# Altium footprint library Passives.PcbLib: 81 footprints (part 3 of 6)
Each footprint in its own frame and in the unit in brackets; x right, y up, seen from the top. Pads: shape width x height; smd on the part's side, far side on the other; paste and mask are expansions set on the pad; w line width, h text height; cw(c..) or ccw(c..) is an arc to the next point about the centre after c.
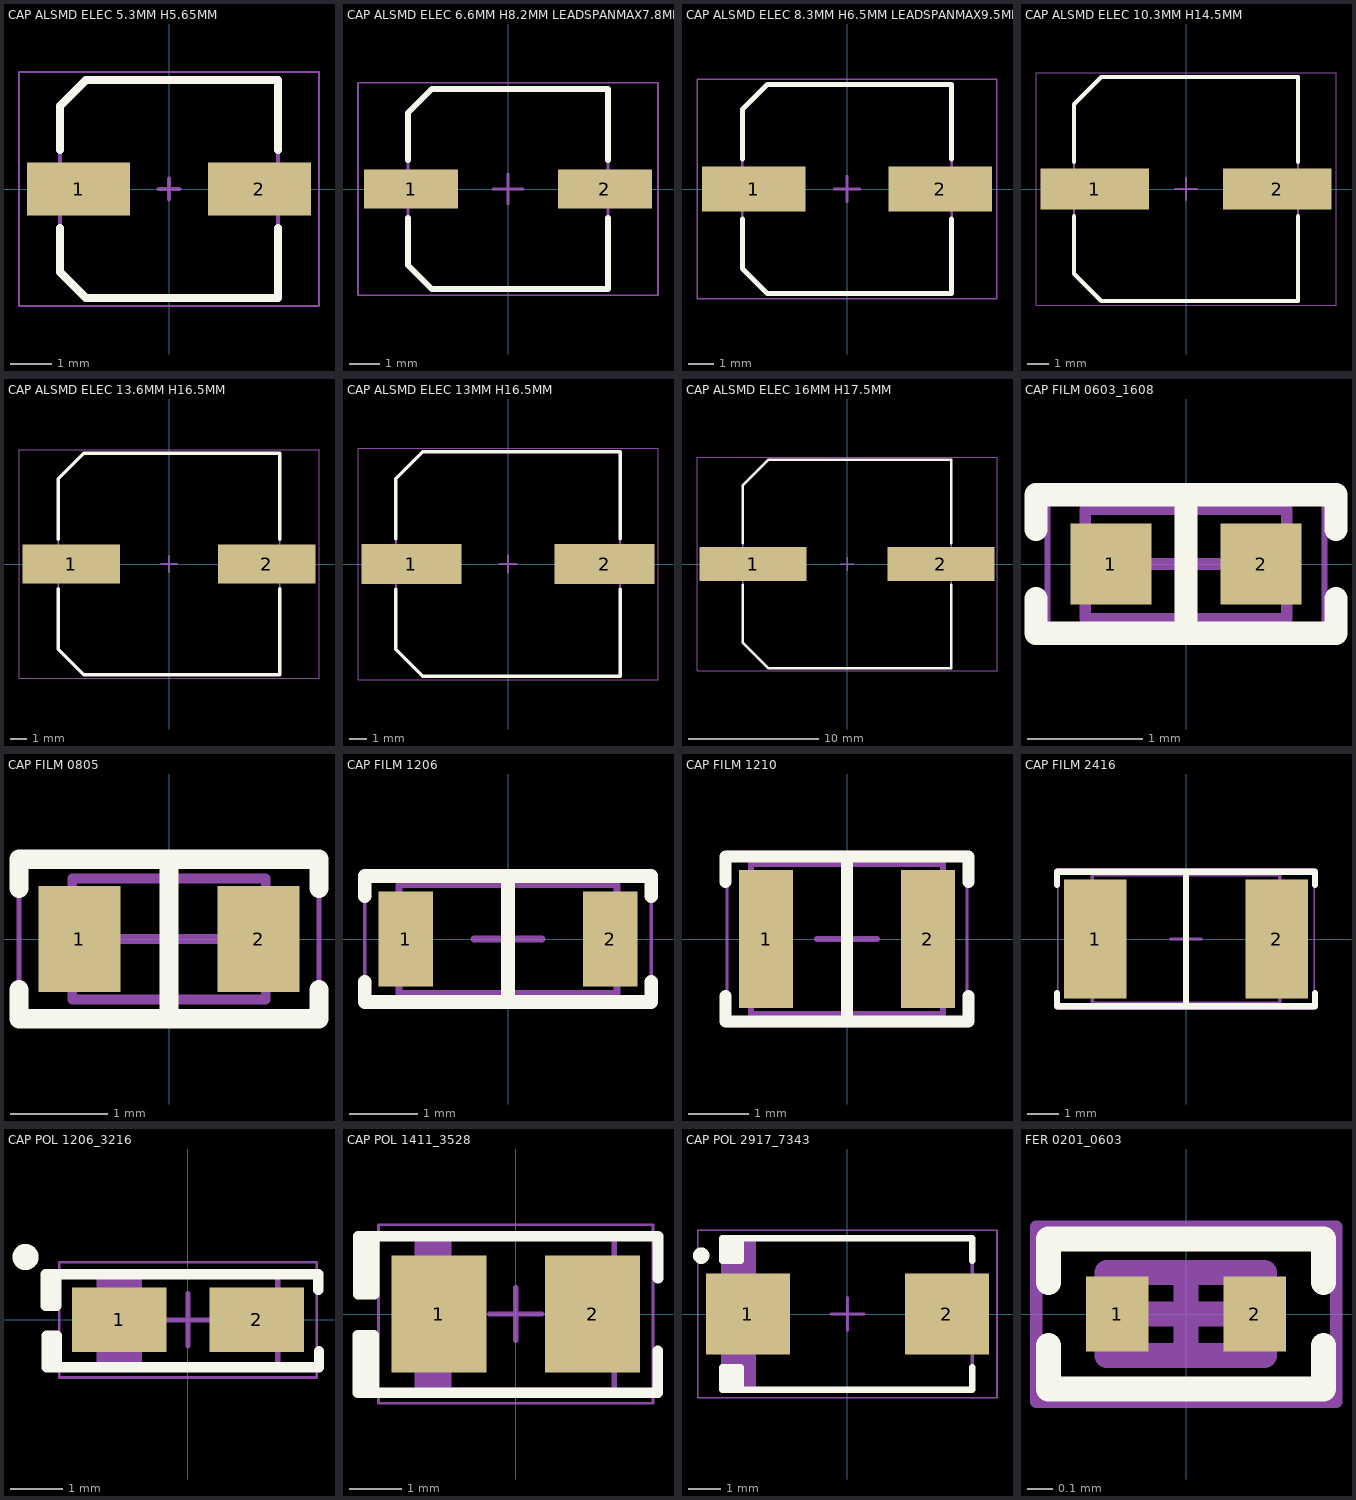
[diagram p2: the footprints below, top view; thin cyan lines are the x and y axes]

## CAP ALSMD ELEC 5.3MM H5.65MM [mm] "Aluminum SMD Electrolytic Capacitor, 5.30mm Land Size, 5.00mm Diameter, 5.65mm Height, 5.50mm Maximum Leads Span"
height 0.65
pads (2):
  rect 2.5x1.3 smd: 1(-2.2,0) 2(2.2,0)
Top Overlay:
  lines w0.2: -2.65,-0.95 -2.65,-2.025 -2.025,-2.65 2.65,-2.65 2.65,-0.95 ; -2.65,0.95 -2.65,2.025 -2.025,2.65 2.65,2.65 2.65,0.95
Mechanical 13:
  lines w0.1: -2.65,-2.025 -2.65,2.025 -2.025,2.65 2.65,2.65 2.65,-2.65 -2.025,-2.65 -2.65,-2.025
Mechanical 15:
  lines w0.05: -3.65,-2.85 -3.65,2.85 3.65,2.85 3.65,-2.85 -3.65,-2.85
  lines w0.1: -0.25,0 0.25,0 ; 0,-0.25 0,0.25
3D body ".STEP": height 5.65, standoff 0, extent -2.75,-2.65 2.75,2.65

## CAP ALSMD ELEC 6.6MM H8.2MM LEADSPANMAX7.8MM [mm] "Aluminum SMD Electrolytic Capacitor, 6.60mm Land Size, 6.30mm Diameter, 8.20mm Height, 7.80mm Maximum Leads Span"
height 0.65
pads (2):
  rect 3.1x1.3 smd: 1(-3.2,0) 2(3.2,0)
Top Overlay:
  lines w0.2: -3.3,-0.95 -3.3,-2.512 -2.512,-3.3 3.3,-3.3 3.3,-0.95 ; -3.3,0.95 -3.3,2.512 -2.512,3.3 3.3,3.3 3.3,0.95
Mechanical 13:
  lines w0.1: -3.3,-2.512 -3.3,2.512 -2.512,3.3 3.3,3.3 3.3,-3.3 -2.512,-3.3 -3.3,-2.512
Mechanical 15:
  lines w0.05: -4.95,-3.5 -4.95,3.5 4.95,3.5 4.95,-3.5 -4.95,-3.5
  lines w0.1: -0.5,0 0.5,0 ; 0,-0.5 0,0.5
3D body ".STEP": height 8.2, standoff 0, extent -3.9,-3.3 3.9,3.3

## CAP ALSMD ELEC 8.3MM H6.5MM LEADSPANMAX9.5MM [mm] "Aluminum SMD Electrolytic Capacitor, 8.30mm Land Size, 8.00mm Diameter, 6.50mm Height, 9.50mm Maximum Leads Span"
height 0.9
pads (2):
  rect 4.1x1.8 smd: 1(-3.7,0) 2(3.7,0)
Top Overlay:
  lines w0.2: -4.15,-1.2 -4.15,-3.15 -3.15,-4.15 4.15,-4.15 4.15,-1.2 ; -4.15,1.2 -4.15,3.15 -3.15,4.15 4.15,4.15 4.15,1.2
Mechanical 13:
  lines w0.1: -4.15,-3.15 -4.15,3.15 -3.15,4.15 4.15,4.15 4.15,-4.15 -3.15,-4.15 -4.15,-3.15
Mechanical 15:
  lines w0.05: -5.95,-4.35 -5.95,4.35 5.95,4.35 5.95,-4.35 -5.95,-4.35
  lines w0.1: -0.5,0 0.5,0 ; 0,-0.5 0,0.5
3D body ".STEP": height 6.5, standoff 0, extent -4.75,-4.15 4.75,4.15

## CAP ALSMD ELEC 10.3MM H14.5MM [mm] "Aluminum SMD Electrolytic Capacitor, 10.30mm Land Size, 10.00mm Diameter, 14.50mm Height, 10.90mm Maximum Leads Span"
height 0.95
pads (2):
  rect 5x1.9 smd: 1(-4.2,0) 2(4.2,0)
Top Overlay:
  lines w0.2: -5.15,-1.25 -5.15,-3.9 -3.9,-5.15 5.15,-5.15 5.15,-1.25 ; -5.15,1.25 -5.15,3.9 -3.9,5.15 5.15,5.15 5.15,1.25
Mechanical 13:
  lines w0.1: -5.15,-3.9 -5.15,3.9 -3.9,5.15 5.15,5.15 5.15,-5.15 -3.9,-5.15 -5.15,-3.9
Mechanical 15:
  lines w0.05: -6.9,-5.35 -6.9,5.35 6.9,5.35 6.9,-5.35 -6.9,-5.35
  lines w0.1: -0.5,0 0.5,0 ; 0,-0.5 0,0.5
3D body ".STEP": height 14.5, standoff 0, extent -5.45,-5.15 5.45,5.15

## CAP ALSMD ELEC 13.6MM H16.5MM [mm] "Aluminum SMD Electrolytic Capacitor, 13.60mm Land Size, 12.50mm Diameter, 16.50mm Height, 14.60mm Maximum Leads Span"
height 1.2
pads (2):
  rect 6x2.4 smd: 1(-6,0) 2(6,0)
Top Overlay:
  lines w0.2: -6.8,-1.5 -6.8,-5.237 -5.237,-6.8 6.8,-6.8 6.8,-1.5 ; -6.8,1.5 -6.8,5.237 -5.237,6.8 6.8,6.8 6.8,1.5
Mechanical 13:
  lines w0.1: -6.8,-5.237 -6.8,5.237 -5.237,6.8 6.8,6.8 6.8,-6.8 -5.237,-6.8 -6.8,-5.237
Mechanical 15:
  lines w0.05: -9.2,-7 -9.2,7 9.2,7 9.2,-7 -9.2,-7
  lines w0.1: -0.5,0 0.5,0 ; 0,-0.5 0,0.5
3D body ".STEP": height 16.5, standoff 0, extent -7.3,-6.8 7.3,6.8

## CAP ALSMD ELEC 13MM H16.5MM [mm] "Aluminum SMD Electrolytic Capacitor, 13.00mm Land Size, 12.50mm Diameter, 16.50mm Height, 13.70mm Maximum Leads Span"
height 1.15
pads (2):
  rect 5.8x2.3 smd: 1(-5.6,0) 2(5.6,0)
Top Overlay:
  lines w0.2: -6.5,-1.45 -6.5,-4.937 -4.937,-6.5 6.5,-6.5 6.5,-1.45 ; -6.5,1.45 -6.5,4.937 -4.937,6.5 6.5,6.5 6.5,1.45
Mechanical 13:
  lines w0.1: -6.5,-4.937 -6.5,4.937 -4.937,6.5 6.5,6.5 6.5,-6.5 -4.937,-6.5 -6.5,-4.937
Mechanical 15:
  lines w0.05: -8.7,-6.7 -8.7,6.7 8.7,6.7 8.7,-6.7 -8.7,-6.7
  lines w0.1: -0.5,0 0.5,0 ; 0,-0.5 0,0.5
3D body ".STEP": height 16.5, standoff 0, extent -6.85,-6.5 6.85,6.5

## CAP ALSMD ELEC 16MM H17.5MM [mm] "Aluminum SMD Electrolytic Capacitor, 16.00mm Land Size, 16.00mm Diameter, 17.50mm Height, 18.60mm Maximum Leads Span"
height 1.3
pads (2):
  rect 8.2x2.6 smd: 1(-7.2,0) 2(7.2,0)
Top Overlay:
  lines w0.2: -8,-1.6 -8,-6 -6,-8 8,-8 8,-1.6 ; -8,1.6 -8,6 -6,8 8,8 8,1.6
Mechanical 13:
  lines w0.1: -8,-6 -8,6 -6,8 8,8 8,-8 -6,-8 -8,-6
Mechanical 15:
  lines w0.05: -11.5,-8.2 -11.5,8.2 11.5,8.2 11.5,-8.2 -11.5,-8.2
  lines w0.1: -0.5,0 0.5,0 ; 0,-0.5 0,0.5
3D body ".STEP": height 17.5, standoff 0, extent -9.3,-8 9.3,8

## CAP FILM 0603_1608 [mm] "Chip Capacitor, 2-Leads, Body 1.60x0.80mm, IPC Medium Density"
height 0.89
pads (2):
  rect 0.7x0.7 smd: 1(-0.65,0) 2(0.65,0)
Top Overlay:
  lines w0.2: -1.3,-0.3 -1.3,-0.6 1.3,-0.6 1.3,-0.3 ; -1.3,0.3 -1.3,0.6 1.3,0.6 1.3,0.3 ; 0,-0.6 0,0.6
Mechanical 13:
  lines w0.1: -0.875,-0.475 -0.875,0.475 0.875,0.475 0.875,-0.475 -0.875,-0.475
Mechanical 15:
  lines w0.05: -1.2,-0.6 -1.2,0.6 1.2,0.6 1.2,-0.6 -1.2,-0.6
  lines w0.1: -0.475,0 0.475,0 ; 0,-0.475 0,0.475
3D body "CAP FILM - 0603.step": height 0.7, standoff 0, extent -0.8,-0.4 0.8,0.4

## CAP FILM 0805 [mm] "J2, Film Capacitor PPS , 2-Leads, Body 2.00x1.25mm, IPC Medium Density"
height 1
pads (2):
  rect 0.85x1.1 smd: 1(-0.925,0) 2(0.925,0)
Top Overlay:
  lines w0.2: -1.55,-0.525 -1.55,-0.825 1.55,-0.825 1.55,-0.525 ; -1.55,0.525 -1.55,0.825 1.55,0.825 1.55,0.525 ; 0,-0.825 0,0.8
Mechanical 13:
  lines w0.1: -1,-0.625 1,-0.625 1,0.625 -1,0.625 -1,-0.625
Mechanical 15:
  lines w0.05: -1.55,-0.825 -1.55,0.825 1.55,0.825 1.55,-0.825 -1.55,-0.825
  lines w0.1: -0.5,0 0.5,0 ; 0,-0.5 0,0.5
3D body "CAP FILM - 0805.step": height 1.2, standoff 0, extent -1,-0.616 1,0.616

## CAP FILM 1206 [mm] "H1, Film Capacitor PPS, 2-Leads, Body 3.20x1.60mm, IPC Medium Density"
height 0.8
pads (2):
  rect 0.8x1.4 smd: 1(-1.5,0) 2(1.5,0)
Top Overlay:
  lines w0.2: -2.1,-0.625 -2.1,-0.925 2.1,-0.925 2.1,-0.625 ; -2.1,0.625 -2.1,0.925 2.1,0.925 2.1,0.625 ; 0,-0.925 0,0.9
Mechanical 13:
  lines w0.1: -1.6,-0.8 -1.6,0.8 1.6,0.8 1.6,-0.8 -1.6,-0.8
Mechanical 15:
  lines w0.05: -2.1,-1 2.1,-1 2.1,1 -2.1,1 -2.1,-1
  lines w0.1: -0.5,0 0.5,0 ; 0,-0.5 0,0.5
3D body "CAP FILM - 1206.step": height 1, standoff 0, extent -1.6,-0.8 1.6,0.8

## CAP FILM 1210 [mm] "G2, Film Capacitor PPS, 2-Leads, Body 3.20x2.50mm, IPC Medium Density"
height 1.4
pads (2):
  rect 0.9x2.3 smd: 1(-1.35,0) 2(1.35,0)
Top Overlay:
  lines w0.2: -2.025,-0.95 -2.025,-1.375 2.025,-1.375 2.025,-0.95 ; -2.025,0.95 -2.025,1.375 2.025,1.375 2.025,0.95 ; 0,-1.375 0,1.375
Mechanical 13:
  lines w0.1: -1.6,-1.25 -1.6,1.25 1.6,1.25 1.6,-1.25 -1.6,-1.25
Mechanical 15:
  lines w0.05: -2,-1.45 -2,1.45 2,1.45 2,-1.45 -2,-1.45
  lines w0.1: -0.5,0 0.5,0 ; 0,-0.5 0,0.5
3D body "CAP FILM - 1210-1.6mm.step": height 1.6, standoff 0, extent -1.6,-1.25 1.6,1.25

## CAP FILM 2416 [mm] "D1, Film Capacitor PPS, 2-Leads, Body 6.00x4.10mm, IPC Medium Density"
height 1.8
pads (2):
  rect 2x3.8 smd: 1(-2.9,0) 2(2.9,0)
Top Overlay:
  lines w0.2: -4.125,-1.725 -4.125,-2.15 4.125,-2.15 4.125,-1.725 ; -4.125,1.725 -4.125,2.15 4.125,2.15 4.125,1.725 ; 0,-2.15 0,2.15
Mechanical 13:
  lines w0.1: -3,-2.05 -3,2.05 3,2.05 3,-2.05 -3,-2.05
Mechanical 15:
  lines w0.05: -4.1,-2.25 -4.1,2.25 4.1,2.25 4.1,-2.25 -4.1,-2.25
  lines w0.1: -0.5,0 0.5,0 ; 0,-0.5 0,0.5
3D body "CAP FILM - 2416.step": height 2.2, standoff 0, extent -3,-2.05 3,2.05

## CAP POL 1206_3216 [mm] "Molded Capacitor, 2-Leads, Body 3.20x1.6mm, IPC Medium Density"
height 1.7
pads (2):
  rect 1.8x1.23 smd: 1(-1.31,0) 2(1.31,0)
Top Overlay:
  circle w0.25: c-3.1,1.2 r0.125
  rectangle: -2.717,0.273 -2.567,0.873
  rectangle: -2.7,-0.9 -2.55,-0.3
  lines w0.2: -2.517,0.873 -2.517,0.273 -2.717,0.273 -2.717,0.873 2.483,0.873 2.483,0.573 ; -2.5,-0.9 -2.5,-0.3 -2.7,-0.3 -2.7,-0.9 2.5,-0.9 2.5,-0.6
Mechanical 13:
  rectangle: -1.715,-0.85 -0.875,0.85
  lines w0.1: -1.7,-0.85 -1.7,0.85 1.715,0.85 1.715,-0.85 -1.7,-0.85
Mechanical 15:
  lines w0.05: -2.46,-1.1 2.46,-1.1 2.46,1.1 -2.46,1.1 -2.46,-1.1
  lines w0.1: -0.5,0 0.5,0 ; 0,-0.5 0,0.5
3D body "CAP TANT - 1206 - 1.7MM.step": height 1.7, standoff 0, extent -1.715,-0.85 1.715,0.85

## CAP POL 1411_3528 [mm] "Molded Capacitor, 2-Leads, Body 3.50x2.80mm, IPC Medium Density"
height 2
pads (2):
  rect 1.8x2.23 smd: 1(-1.46,0) 2(1.46,0)
Top Overlay:
  region: -3,-0.4 -3,-1.5 -2.7,-1.5 -2.7,-0.4
  region: -2.995,0.38 -2.995,1.48 -2.695,1.48 -2.695,0.38
  lines w0.2: 2.7,-0.7 2.7,-1.5 -2.7,-1.5 ; 2.705,0.68 2.705,1.48 -2.695,1.48 ; -2.7,-1.5 -2.7,-0.4 -3,-0.4 -3,-1.5 -2.7,-1.5 ; -2.695,1.48 -2.695,0.38 -2.995,0.38 -2.995,1.48 -2.695,1.48
Mechanical 13:
  rectangle: -1.875,-1.45 -1.225,1.45
  lines w0.1: -1.875,-1.45 1.875,-1.45 1.875,1.45 -1.875,1.45 -1.875,-1.45
Mechanical 15:
  lines w0.05: -2.61,-1.7 2.61,-1.7 2.61,1.7 -2.61,1.7 -2.61,-1.7
  lines w0.1: -0.5,0 0.5,0 ; 0,-0.5 0,0.5
3D body "CAP TANT - 1411 - 2.0MM.step": height 2, standoff 0, extent -1.865,-1.45 1.865,1.45

## CAP POL 2917_7343 [mm] "Molded Capacitor, 2-Leads, Body 7.30x4.30mm, IPC Medium Density"
height 4.3
pads (2):
  rect 2.55x2.45 smd: 1(-3.025,0) 2(3.025,0)
Top Overlay:
  circle w0.25: c-4.45,1.775 r0.125
  rectangle: -3.8,-2.3 -3.25,-1.625
  rectangle: -3.8,1.625 -3.25,2.3
  lines w0.2: -3.25,-2.3 -3.25,-1.625 -3.8,-1.625 -3.8,-2.3 3.8,-2.3 3.8,-1.625 ; -3.25,2.3 -3.25,1.625 -3.8,1.625 -3.8,2.3 3.8,2.3 3.8,1.625
Mechanical 13:
  rectangle: -3.8,-2.3 -2.778,2.3
  lines w0.1: -3.8,-2.3 -3.8,2.3 3.8,2.3 3.8,-2.3 -3.8,-2.3
Mechanical 15:
  lines w0.05: -4.55,-2.55 -4.55,2.55 4.55,2.55 4.55,-2.55 -4.55,-2.55
  lines w0.1: -0.5,0 0.5,0 ; 0,-0.5 0,0.5
3D body "Tantalum Capacitor case E.STEP": height 4.1, standoff 0, extent -3.65,-2.15 3.65,2.15

## FER 0201_0603 [mm] "Chip Inductor, 2-Leads, Body 0.60x0.30mm, IPC Medium Density"
height 0.33
pads (2):
  rect 0.25x0.3 smd: 1(-0.275,0) 2(0.275,0)
Top Overlay:
  lines w0.1: -0.55,-0.125 -0.55,-0.3 0.55,-0.3 0.55,-0.125 ; -0.55,0.125 -0.55,0.3 0.55,0.3 0.55,0.125
Mechanical 13:
  lines w0.1: -0.315,-0.165 0.315,-0.165 0.315,0.165 -0.315,0.165 -0.315,-0.165
Mechanical 15:
  lines w0.05: -0.6,-0.35 0.6,-0.35 0.6,0.35 -0.6,0.35 -0.6,-0.35
  lines w0.1: -0.165,0 0.165,0 ; 0,-0.165 0,0.165
3D body "FER 0201.STEP": height 0.29, standoff -0.01, extent -0.3,-0.15 0.3,0.15